# Altium schematic symbol library MOSFET,N Ch,30V,5A.Schlib: 1 symbol
Pins are listed as number, name and electrical type; pins without a type are passive.

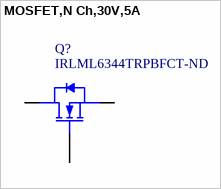
[diagram p0: symbol MOSFET,N Ch,30V,5A]

## MOSFET,N Ch,30V,5A
designator Q?, comment IRLML6344TRPBFCT-ND
N-Channel 30V 5A (Ta) 1.3W (Ta) Surface Mount Micro3™/SOT-23
pins: 1 G, 2 S, 3 D